# Altium footprint library CAP2220.PcbLib: 1 footprints
Each footprint in its own frame and in the unit in brackets; x right, y up, seen from the top. Pads: shape width x height; smd on the part's side, far side on the other; paste and mask are expansions set on the pad; w line width, h text height; cw(c..) or ccw(c..) is an arc to the next point about the centre after c.
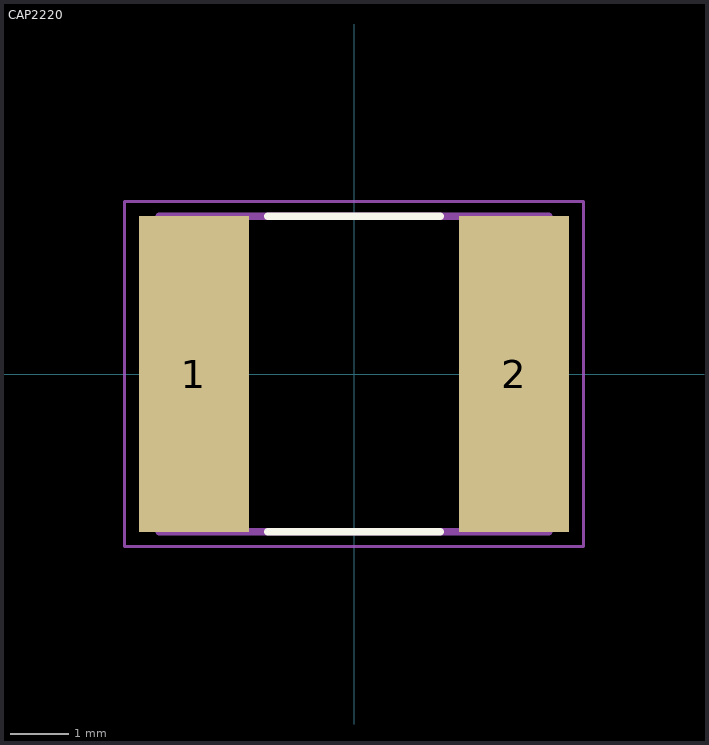
[diagram p0: the footprint, top view; thin cyan lines are the x and y axes]

## CAP2220 [mm] "CAP CER 2220"
height 2.8
pads (2):
  rect 1.88x5.41 smd: 1(-2.738,0) 2(2.738,0)
Top Overlay:
  lines w0.127: -1.48,-2.7 1.48,-2.7 ; -1.48,2.7 1.48,2.7
Mechanical 13:
  lines w0.127: -3.33,-2.7 -3.33,2.7 ; -3.33,-2.7 3.33,-2.7 ; -3.33,-2.7 -3.33,2.7 ; -3.33,-2.7 3.33,-2.7 ; -3.33,2.7 3.33,2.7 ; -3.33,2.7 3.33,2.7 ; 3.33,-2.7 3.33,2.7 ; 3.33,-2.7 3.33,2.7
Mechanical 16:
  lines w0.05: -3.927,-2.95 -3.927,2.95 3.927,2.95 3.927,-2.95 -3.927,-2.95
3D body: height 2.8, standoff 0, extent -2.857,-2.794 2.857,2.794
3D body: height 0.25, standoff 0, extent 0,0 0,0
3D body: height 0.25, standoff 0, extent 0,0 0,0